# Altium schematic symbol library GENERIC_SWITCH_SPST_NO.SchLib: 1 symbol
Pins are listed as number, name and electrical type; pins without a type are passive.

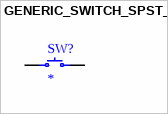
[diagram p0: symbol GENERIC_SWITCH_SPST_NO]

## GENERIC_SWITCH_SPST_NO
designator SW?
pins: 1, 2